# EAGLE library part SSA-LXB525 (library led)
LED ARRAY 5-SEGMENT
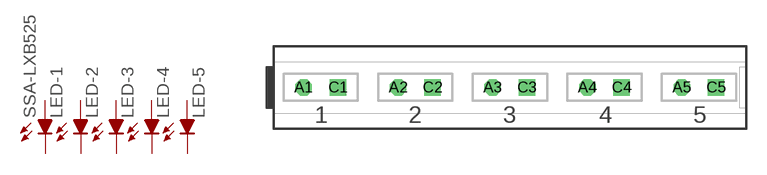
[diagram p7: symbol with the pads of SSA-LXB525; footprint SSA-LXB525]

Designator prefix LED; gates -1=LED-NV -2=LED-N -3=LED-N -4=LED-N -5=LED-N

## SSA-LXB525  [SSA-LXB525]
A1  -1:A  pas
A2  -2:A  pas
A3  -3:A  pas
A4  -4:A  pas
A5  -5:A  pas
C1  -1:C  pas
C2  -2:C  pas
C3  -3:C  pas
C4  -4:C  pas
C5  -5:C  pas

## Footprint SSA-LXB525 (pad centres in mm)
5-Segment LED BAR Lumex
drill 0.711 octagon: A1 -15.27,0; A2 -8.27,0; A3 -1.27,0; A4 5.73,0; A5 12.73,0
drill 0.711 square: C1 -12.72,0; C2 -5.73,0; C3 1.27,0; C4 8.27,0; C5 15.27,0